# EAGLE library part 74*293 (library 74xx-eu)
Decade and 4-bit BINARY COUNTER
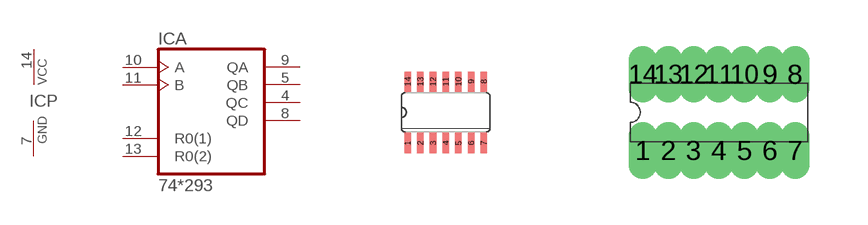
[diagram p168: symbol with the pads of SO14; footprints SO14, DIL14]

Designator prefix IC; gates A=74293 P=PWRN

## 74293D  [SO14]
4  A:QC  out
5  A:QB  out
7  P:GND  pwr
8  A:QD  out
9  A:QA  out
10  A:A  in
11  A:B  in
12  A:R0(1)  in
13  A:R0(2)  in
14  P:VCC  pwr

## 74293N, 74LS293N  [DIL14]
Pads as for SO14

## Footprint SO14 (pad centres in mm)
Small Outline package 150 mil
smd 0.165 x 0.508: 1 -0.953,-0.768; 2 -0.635,-0.768; 3 -0.318,-0.768; 4 0,-0.768; 5 0.318,-0.768; 6 0.635,-0.768; 7 0.953,-0.768; 8 0.953,0.768; 9 0.635,0.768; 10 0.318,0.768; 11 0,0.768; 12 -0.318,0.768; 13 -0.635,0.768; 14 -0.953,0.768

## Footprint DIL14 (pad centres in mm)
Dual In Line Package
drill 0.203 long: 1 -1.905,-0.953; 2 -1.27,-0.953; 3 -0.635,-0.953; 4 0,-0.953; 5 0.635,-0.953; 6 1.27,-0.953; 7 1.905,-0.953; 8 1.905,0.953; 9 1.27,0.953; 10 0.635,0.953; 11 0,0.953; 12 -0.635,0.953; 13 -1.27,0.953; 14 -1.905,0.953